# Altium schematic symbol library dungvh03-CERN_AnalogInterface.SchLib: 1053 symbols (part 1 of 12)
Pins are listed as number, name and electrical type; pins without a type are passive.

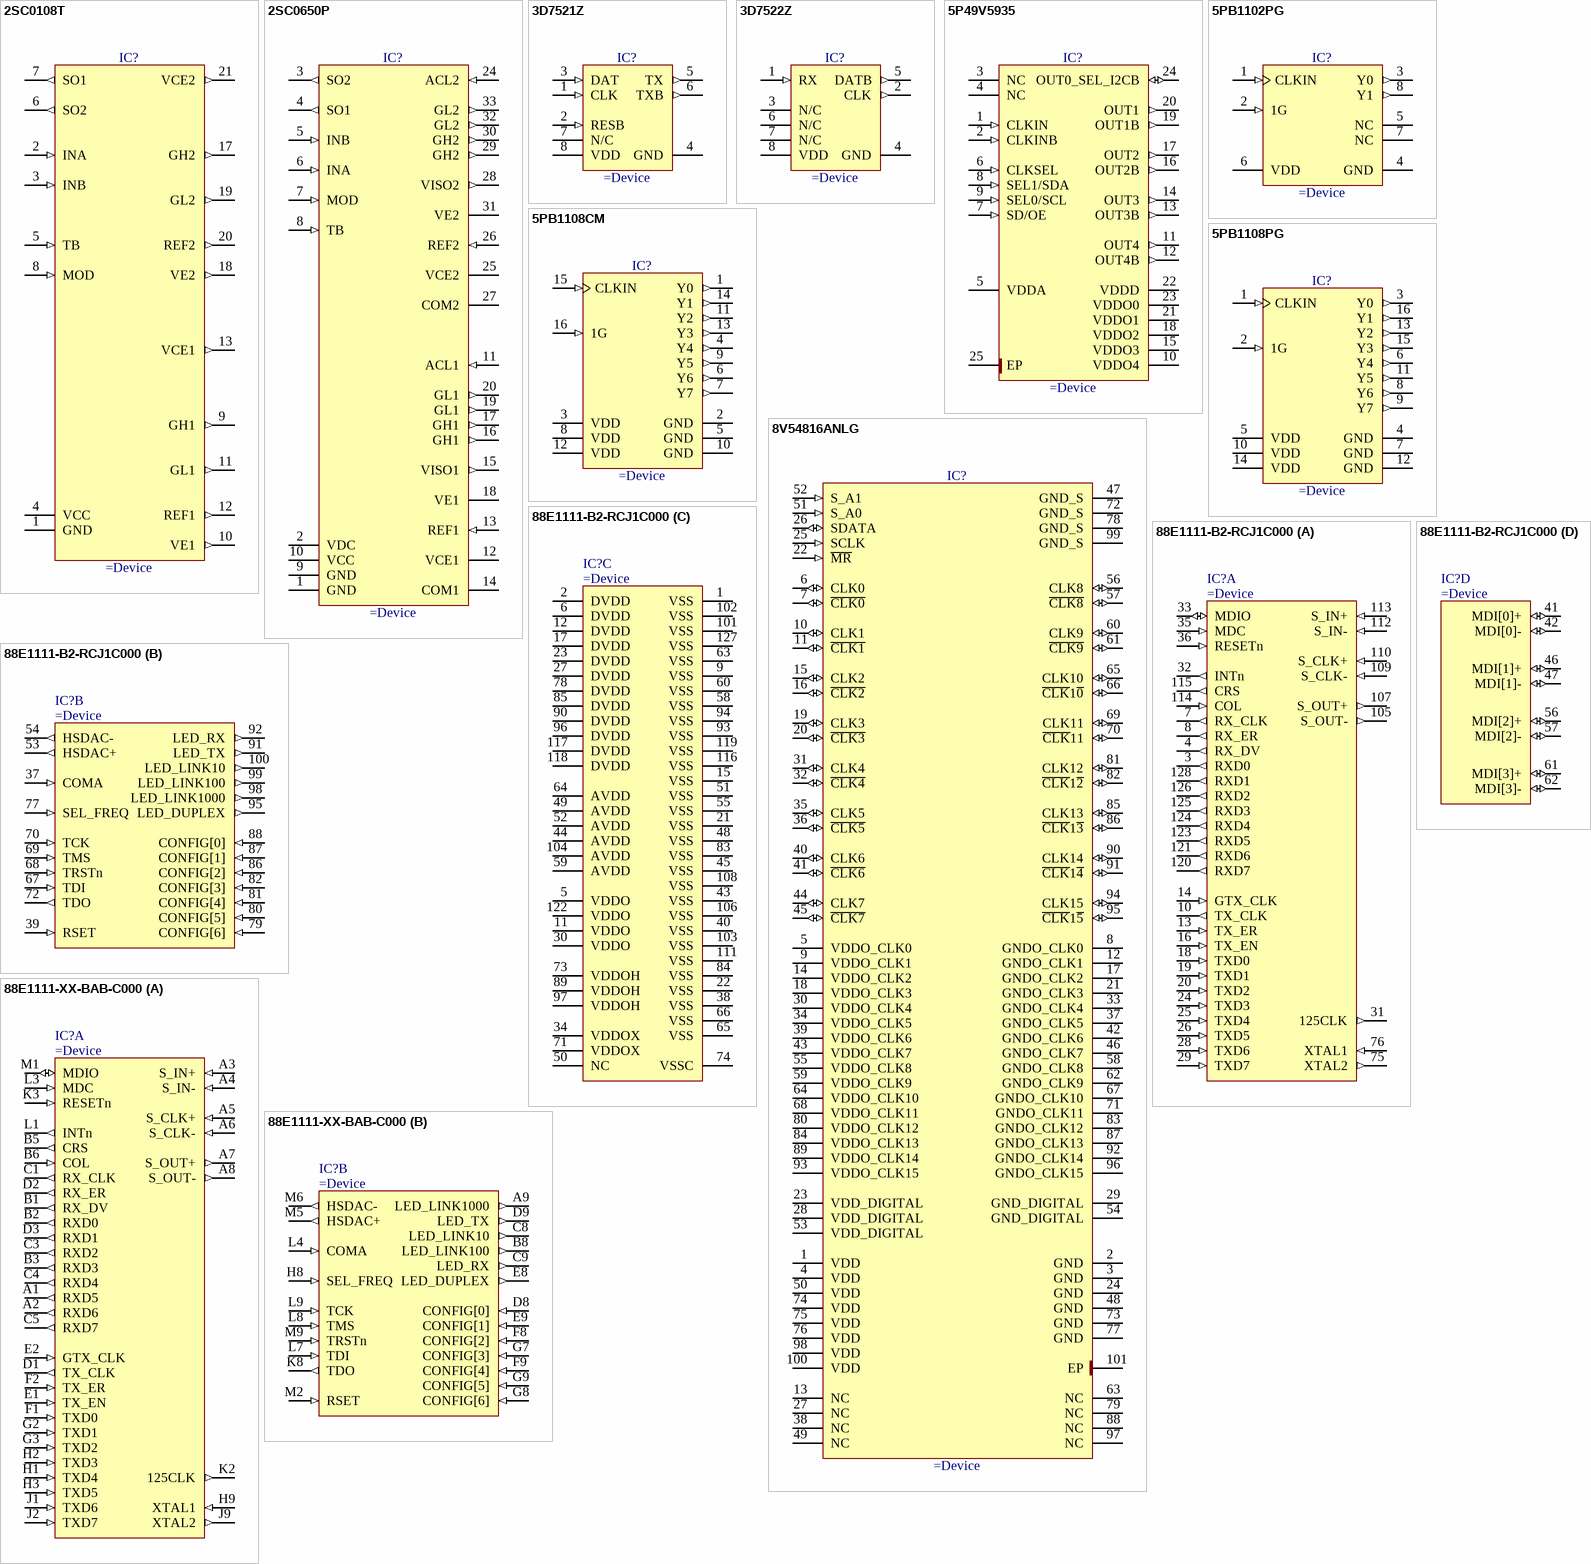
[diagram p0: symbols 2SC0108T to 88E1111-XX-BAB-C000]

## 2SC0108T
designator IC?
Dual-Channel SCALE™-2 Driver Core
pins: 1 GND (power), 2 INA (in), 3 INB (in), 4 VCC (power), 5 TB (in), 6 SO2 (out), 7 SO1 (out), 8 MOD (in), 9 GH1 (out), 10 VE1 (out), 11 GL1 (out), 12 REF1 (out), 13 VCE1 (out), 17 GH2 (out), 18 VE2 (out), 19 GL2 (out), 20 REF2 (out), 21 VCE2 (out)

## 2SC0650P
designator IC?
Dual-Channel High-Power High-Frequency SCALE-2 Driver Core
pins: 1 GND (power), 2 VDC (power), 3 SO2 (out), 4 SO1 (out), 5 INB (in), 6 INA (in), 7 MOD (in), 8 TB (in), 9 GND (power), 10 VCC (power), 11 ACL1 (in), 12 VCE1 (oc), 13 REF1 (in), 14 COM1 (power), 15 VISO1 (out), 16 GH1 (out), 17 GH1 (out), 18 VE1 (oe), 19 GL1 (out), 20 GL1 (out), 24 ACL2 (in), 25 VCE2 (oc), 26 REF2 (in), 27 COM2 (power), 28 VISO2 (out), 29 GH2 (out), 30 GH2 (out), 31 VE2 (oe), 32 GL2 (out), 33 GL2 (out)

## 3D7521Z
designator IC?
Monolithic Manchester Encoder
pins: 1 CLK (in), 2 RESB (in), 3 DAT (in), 4 GND (power), 5 TX (out), 6 TXB (out), 7 N/C, 8 VDD (power)

## 3D7522Z
designator IC?
Monolithic CMOS Manchester Decoders
pins: 1 RX (in), 2 CLK (out), 3 N/C, 4 GND (power), 5 DATB (out), 6 N/C, 7 N/C, 8 VDD (power)

## 5P49V5935
designator IC?
VersaClock® 5 Low Power Programmable Clock Generator with Integrated Crystal
pins: 1 CLKIN (in), 2 CLKINB (in), 3 NC, 4 NC, 5 VDDA (power), 6 CLKSEL (in), 7 SD/OE (in), 8 SEL1/SDA (in), 9 SEL0/SCL (in), 10 VDDO4 (power), 11 OUT4 (out), 12 OUT4B (out), 13 OUT3B (out), 14 OUT3 (out), 15 VDDO3 (power), 16 OUT2B (out), 17 OUT2 (out), 18 VDDO2 (power), 19 OUT1B (out), 20 OUT1 (out), 21 VDDO1 (power), 22 VDDD (power), 23 VDDO0 (power), 24 OUT0_SEL_I2CB (io), 25 EP (power)

## 5PB1102PG
designator IC?
1.8V to 3.3V 1:2 LVCMOS High Performance Clock Buffer Family
pins: 1 CLKIN (in), 2 1G (in), 3 Y0 (out), 4 GND (power), 5 NC, 6 VDD (power), 7 NC, 8 Y1 (out)

## 5PB1108CM
designator IC?
1.8V to 3.3V 1:8 LVCMOS High Performance Clock Buffer Family
pins: 1 Y0 (out), 2 GND (power), 3 VDD (power), 4 Y4 (out), 5 GND (power), 6 Y6 (out), 7 Y7 (out), 8 VDD (power), 9 Y5 (out), 10 GND (power), 11 Y2 (out), 12 VDD (power), 13 Y3 (out), 14 Y1 (out), 15 CLKIN (in), 16 1G (in)

## 5PB1108PG
designator IC?
1.8V to 3.3V 1:8 LVCMOS High Performance Clock Buffer Family
pins: 1 CLKIN (in), 2 1G (in), 3 Y0 (out), 4 GND (power), 5 VDD (power), 6 Y4 (out), 7 GND (power), 8 Y6 (out), 9 Y7 (out), 10 VDD (power), 11 Y5 (out), 12 GND (power), 13 Y2 (out), 14 VDD (power), 15 Y3 (out), 16 Y1 (out)

## 8V54816ANLG
designator IC?
16-Port, Bi-directional M-LVDS Clock Cross-Point Switch
pins: 1 VDD (power), 2 GND (power), 3 GND (power), 4 VDD (power), 5 VDDO_CLK0 (power), 6 CLK0 (io), 7 ~{CLK0} (io), 8 GNDO_CLK0 (power), 9 VDDO_CLK1 (power), 10 CLK1 (io), 11 ~{CLK1} (io), 12 GNDO_CLK1 (power), 13 NC, 14 VDDO_CLK2 (power), 15 CLK2 (io), 16 ~{CLK2} (io), 17 GNDO_CLK2 (power), 18 VDDO_CLK3 (power), 19 CLK3 (io), 20 ~{CLK3} (io), 21 GNDO_CLK3 (power), 22 ~{MR} (in), 23 VDD_DIGITAL (power), 24 GND (power), 25 SCLK (in), 26 SDATA (io), 27 NC, 28 VDD_DIGITAL (power), 29 GND_DIGITAL (power), 30 VDDO_CLK4 (power), 31 CLK4 (io), 32 ~{CLK4} (io), 33 GNDO_CLK4 (power), 34 VDDO_CLK5 (power), 35 CLK5 (io), 36 ~{CLK5} (io), 37 GNDO_CLK5 (power), 38 NC, 39 VDDO_CLK6 (power), 40 CLK6 (io), 41 ~{CLK6} (io), 42 GNDO_CLK6 (power), 43 VDDO_CLK7 (power), 44 CLK7 (io), 45 ~{CLK7} (io), 46 GNDO_CLK7 (power), 47 GND_S (power), 48 GND (power), 49 NC, 50 VDD (power), 51 S_A0 (in), 52 S_A1 (in), 53 VDD_DIGITAL (power), 54 GND_DIGITAL (power), 55 VDDO_CLK8 (power), 56 CLK8 (io), 57 ~{CLK8} (io), 58 GNDO_CLK8 (power), 59 VDDO_CLK9 (power), 60 CLK9 (io), 61 ~{CLK9} (io), 62 GNDO_CLK9 (power), 63 NC, 64 VDDO_CLK10 (power), 65 CLK10 (io), 66 ~{CLK}1~{0} (io), 67 GNDO_CLK10 (power), 68 VDDO_CLK11 (power), 69 CLK11 (io), 70 ~{CLK}11 (io), 71 GNDO_CLK11 (power), 72 GND_S (power), 73 GND (power), 74 VDD (power), 75 VDD (power), 76 VDD (power), 77 GND (power), 78 GND_S (power), 79 NC, 80 VDDO_CLK12 (power), 81 CLK12 (io), 82 ~{CLK}1~{2} (io), 83 GNDO_CLK12 (power), 84 VDDO_CLK13 (power), 85 CLK13 (io), 86 ~{CLK}1~{3} (io), 87 GNDO_CLK13 (power), 88 NC, 89 VDDO_CLK14 (power), 90 CLK14 (io), 91 ~{CLK}1~{4} (io), 92 GNDO_CLK14 (power), 93 VDDO_CLK15 (power), 94 CLK15 (io), 95 ~{CLK}1~{5} (io), 96 GNDO_CLK15 (power), 97 NC, 98 VDD (power), 99 GND_S (power), 100 VDD (power), 101 EP (power)

## 88E1111-B2-RCJ1C000
designator IC?
Integrated 10/100/1000 Ultra Gigabit Ethernet Transceiver
part A pins: 3 RXD0 (out), 4 RX_DV (out), 7 RX_CLK (out), 8 RX_ER (out), 10 TX_CLK (out), 13 TX_ER (in), 14 GTX_CLK (in), 16 TX_EN (in), 18 TXD0 (in), 19 TXD1 (in), 20 TXD2 (in), 24 TXD3 (in), 25 TXD4 (in), 26 TXD5 (in), 28 TXD6 (in), 29 TXD7 (in), 31 125CLK (out), 32 INTn (out), 33 MDIO (io), 35 MDC (in), 36 RESETn (in), 75 XTAL2 (out), 76 XTAL1 (in), 105 S_OUT- (out), 107 S_OUT+ (out), 109 S_CLK- (in), 110 S_CLK+ (in), 112 S_IN- (in), 113 S_IN+ (in), 114 COL (in), 115 CRS (out), 120 RXD7 (out), 121 RXD6 (out), 123 RXD5 (out), 124 RXD4 (out), 125 RXD3 (out), 126 RXD2 (out), 128 RXD1 (out)
part B pins: 37 COMA (in), 39 RSET (in), 53 HSDAC+ (out), 54 HSDAC- (out), 67 TDI (in), 68 TRSTn (in), 69 TMS (in), 70 TCK (in), 72 TDO (out), 77 SEL_FREQ (in), 79 CONFIG[6] (in), 80 CONFIG[5] (in), 81 CONFIG[4] (in), 82 CONFIG[3] (in), 86 CONFIG[2] (in), 87 CONFIG[1] (in), 88 CONFIG[0] (in), 91 LED_TX (out), 92 LED_RX (out), 95 LED_DUPLEX (out), 98 LED_LINK1000 (out), 99 LED_LINK100 (out), 100 LED_LINK10 (out)
part C pins: 1 VSS (power), 2 DVDD (power), 5 VDDO (power), 6 DVDD (power), 9 VSS (power), 11 VDDO (power), 12 DVDD (power), 15 VSS (power), 17 DVDD (power), 21 VSS (power), 22 VSS (power), 23 DVDD (power), 27 DVDD (power), 30 VDDO (power), 34 VDDOX (power), 38 VSS (power), 40 VSS (power), 43 VSS (power), 44 AVDD (power), 45 VSS (power), 48 VSS (power), 49 AVDD (power), 50 NC, 51 VSS (power), 52 AVDD (power), 55 VSS (power), 58 VSS (power), 59 AVDD (power), 60 VSS (power), 63 VSS (power), 64 AVDD (power), 65 VSS (power), 66 VSS (power), 71 VDDOX (power), 73 VDDOH (power), 74 VSSC (power), 78 DVDD (power), 83 VSS (power), 84 VSS (power), 85 DVDD (power), 89 VDDOH (power), 90 DVDD (power), 93 VSS (power), 94 VSS (power), 96 DVDD (power), 97 VDDOH (power), 101 VSS (power), 102 VSS (power), 103 VSS (power), 104 AVDD (power), 106 VSS (power), 108 VSS (power), 111 VSS (power), 116 VSS (power), 117 DVDD (power), 118 DVDD (power), 119 VSS (power), 122 VDDO (power), 127 VSS (power)
part D pins: 41 MDI[0]+ (io), 42 MDI[0]- (io), 46 MDI[1]+ (io), 47 MDI[1]- (io), 56 MDI[2]+ (io), 57 MDI[2]- (io), 61 MDI[3]+ (io), 62 MDI[3]- (io)

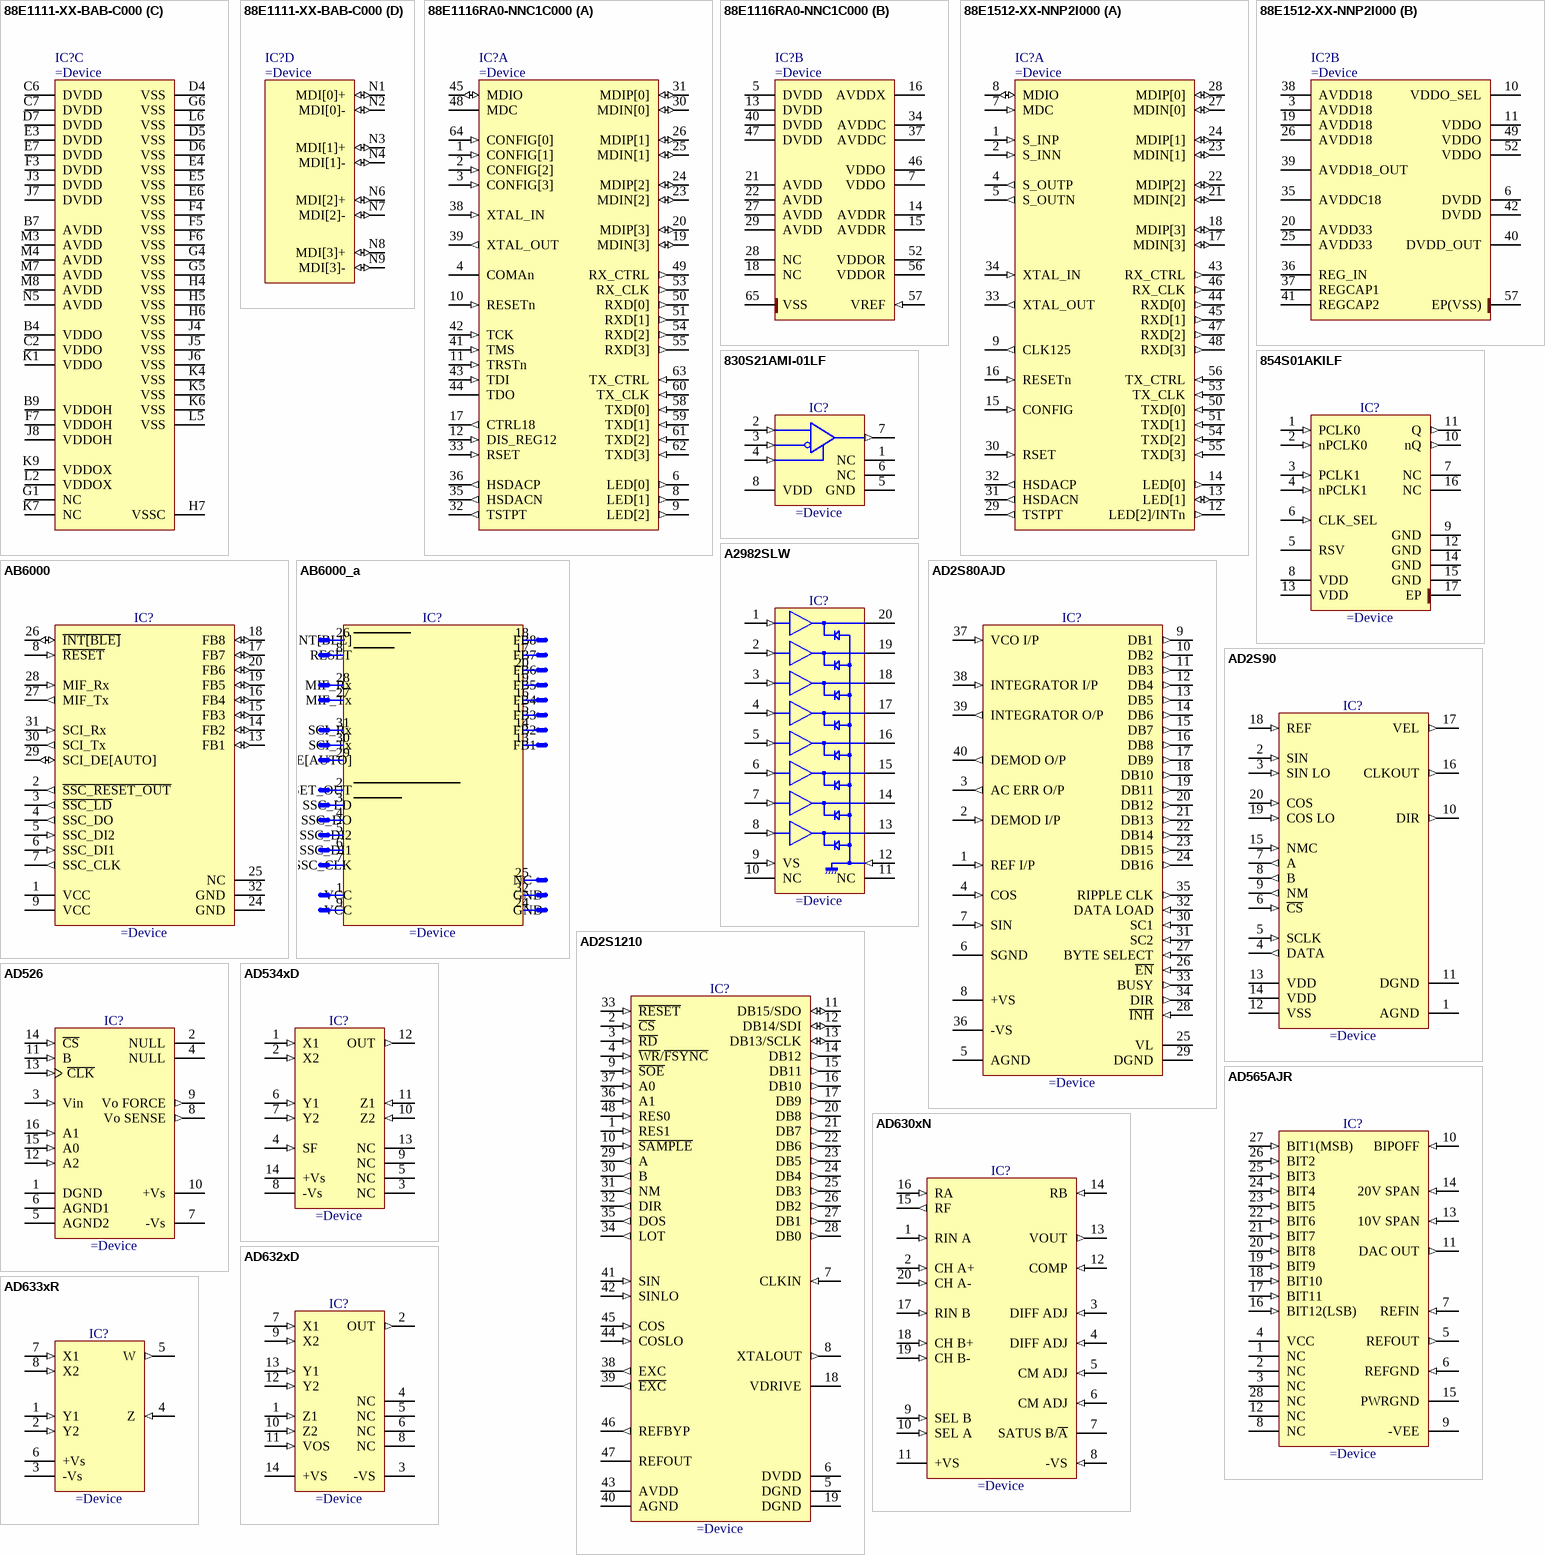
[diagram p1: symbols 88E1111-XX-BAB-C000 to AD633xR]

## 88E1111-XX-BAB-C000
designator IC?
Integrated 10/100/1000 Ultra Gigabit Ethernet Transceiver
part A pins: A1 RXD5 (out), A2 RXD6 (out), A3 S_IN+ (in), A4 S_IN- (in), A5 S_CLK+ (in), A6 S_CLK- (in), A7 S_OUT+ (out), A8 S_OUT- (out), B1 RX_DV (out), B2 RXD0 (out), B3 RXD3 (out), B5 CRS (out), B6 COL (in), C1 RX_CLK (out), C3 RXD2 (out), C4 RXD4 (out), C5 RXD7 (out), D1 TX_CLK (out), D2 RX_ER (out), D3 RXD1 (out), E1 TX_EN (in), E2 GTX_CLK (in), F1 TXD0 (in), F2 TX_ER (in), G2 TXD1 (in), G3 TXD2 (in), H1 TXD4 (in), H2 TXD3 (in), H3 TXD5 (in), H9 XTAL1 (in), J1 TXD6 (in), J2 TXD7 (in), J9 XTAL2 (out), K2 125CLK (out), K3 RESETn (in), L1 INTn (out), L3 MDC (in), M1 MDIO (io)
part B pins: A9 LED_LINK1000 (out), B8 LED_LINK100 (out), C8 LED_LINK10 (out), C9 LED_RX (out), D8 CONFIG[0] (in), D9 LED_TX (out), E8 LED_DUPLEX (out), E9 CONFIG[1] (in), F8 CONFIG[2] (in), F9 CONFIG[4] (in), G7 CONFIG[3] (in), G8 CONFIG[6] (in), G9 CONFIG[5] (in), H8 SEL_FREQ (in), K8 TDO (out), L4 COMA (in), L7 TDI (in), L8 TMS (in), L9 TCK (in), M2 RSET (in), M5 HSDAC+ (out), M6 HSDAC- (out), M9 TRSTn (in)
part C pins: B4 VDDO (power), B7 AVDD (power), B9 VDDOH (power), C2 VDDO (power), C6 DVDD (power), C7 DVDD (power), D4 VSS (power), D5 VSS (power), D6 VSS (power), D7 DVDD (power), E3 DVDD (power), E4 VSS (power), E5 VSS (power), E6 VSS (power), E7 DVDD (power), F3 DVDD (power), F4 VSS (power), F5 VSS (power), F6 VSS (power), F7 VDDOH (power), G1 NC, G4 VSS (power), G5 VSS (power), G6 VSS (power), H4 VSS (power), H5 VSS (power), H6 VSS (power), H7 VSSC (power), J3 DVDD (power), J4 VSS (power), J5 VSS (power), J6 VSS (power), J7 DVDD (power), J8 VDDOH (power), K1 VDDO (power), K4 VSS (power), K5 VSS (power), K6 VSS (power), K7 NC, K9 VDDOX (power), L2 VDDOX (power), L5 VSS (power), L6 VSS (power), M3 AVDD (power), M4 AVDD (power), M7 AVDD (power), M8 AVDD (power), N5 AVDD (power)
part D pins: N1 MDI[0]+ (io), N2 MDI[0]- (io), N3 MDI[1]+ (io), N4 MDI[1]- (io), N6 MDI[2]+ (io), N7 MDI[2]- (io), N8 MDI[3]+ (io), N9 MDI[3]- (io)

## 88E1116RA0-NNC1C000
designator IC?
Integrated 10/100/1000 Alaska® Gigabit Ethernet Transceiver
part A pins: 1 CONFIG[1] (in), 2 CONFIG[2] (in), 3 CONFIG[3] (in), 4 COMAn (power), 6 LED[0] (out), 8 LED[1] (out), 9 LED[2] (out), 10 RESETn (in), 11 TRSTn (in), 12 DIS_REG12 (in), 17 CTRL18 (out), 19 MDIN[3] (io), 20 MDIP[3] (io), 23 MDIN[2] (io), 24 MDIP[2] (io), 25 MDIN[1] (io), 26 MDIP[1] (io), 30 MDIN[0] (io), 31 MDIP[0] (io), 32 TSTPT (out), 33 RSET (in), 35 HSDACN (out), 36 HSDACP (out), 38 XTAL_IN (in), 39 XTAL_OUT (out), 41 TMS (in), 42 TCK (in), 43 TDI (in), 44 TDO, 45 MDIO (io), 48 MDC, 49 RX_CTRL (out), 50 RXD[0] (out), 51 RXD[1] (out), 53 RX_CLK (out), 54 RXD[2] (out), 55 RXD[3] (out), 58 TXD[0] (in), 59 TXD[1] (in), 60 TX_CLK (in), 61 TXD[2] (in), 62 TXD[3] (in), 63 TX_CTRL (in), 64 CONFIG[0] (in)
part B pins: 5 DVDD (power), 7 VDDO (power), 13 DVDD (power), 14 AVDDR (power), 15 AVDDR (power), 16 AVDDX (power), 18 NC, 21 AVDD (power), 22 AVDD (power), 27 AVDD (power), 28 NC, 29 AVDD (power), 34 AVDDC (power), 37 AVDDC (power), 40 DVDD (power), 46 VDDO (power), 47 DVDD (power), 52 VDDOR (power), 56 VDDOR (power), 57 VREF (in), 65 VSS (power)

## 88E1512-XX-NNP2I000
designator IC?
Alaska Integrated 10/100/1000 Mbps Energy Efficient Ethernet Transceiver
part A pins: 1 S_INP (in), 2 S_INN (in), 4 S_OUTP (out), 5 S_OUTN (out), 7 MDC (in), 8 MDIO (io), 9 CLK125 (out), 12 LED[2]/INTn (out), 13 LED[1] (io), 14 LED[0] (out), 15 CONFIG (in), 16 RESETn (in), 17 MDIN[3] (io), 18 MDIP[3] (io), 21 MDIN[2] (io), 22 MDIP[2] (io), 23 MDIN[1] (io), 24 MDIP[1] (io), 27 MDIN[0] (io), 28 MDIP[0] (io), 29 TSTPT (out), 30 RSET (in), 31 HSDACN (out), 32 HSDACP (out), 33 XTAL_OUT (out), 34 XTAL_IN (in), 43 RX_CTRL (out), 44 RXD[0] (out), 45 RXD[1] (out), 46 RX_CLK (out), 47 RXD[2] (out), 48 RXD[3] (out), 50 TXD[0] (in), 51 TXD[1] (in), 53 TX_CLK (in), 54 TXD[2] (in), 55 TXD[3] (in), 56 TX_CTRL (in)
part B pins: 3 AVDD18 (power), 6 DVDD (power), 10 VDDO_SEL (power), 11 VDDO (power), 19 AVDD18 (power), 20 AVDD33 (power), 25 AVDD33 (power), 26 AVDD18 (power), 35 AVDDC18 (power), 36 REG_IN (power), 37 REGCAP1, 38 AVDD18 (power), 39 AVDD18_OUT (power), 40 DVDD_OUT (power), 41 REGCAP2, 42 DVDD (power), 49 VDDO (power), 52 VDDO (power), 57 EP(VSS) (power)

## 830S21AMI-01LF
designator IC?
1-to-1 2.5V, 3.3V Differential-to-LVCMOS/LVTTL Translator
pins: 1 NC, 2 CLK (in), 3 nCLK (in), 4 OE (in), 5 GND (power), 6 NC, 7 Q (out), 8 VDD (power)

## 854S01AKILF
designator IC?
2:1 Differential-to-LVDS Multiplexer
pins: 1 PCLK0 (in), 2 nPCLK0 (in), 3 PCLK1 (in), 4 nPCLK1 (in), 5 RSV, 6 CLK_SEL (in), 7 NC, 8 VDD (power), 9 GND (power), 10 nQ (out), 11 Q (out), 12 GND (power), 13 VDD (power), 14 GND (power), 15 GND (power), 16 NC, 17 EP (power)

## A2982SLW
designator IC?
8-Channel Source Drivers
pins: 1 I1 (in), 2 I2 (in), 3 I3 (in), 4 I4 (in), 5 I5 (in), 6 I6 (in), 7 I7 (in), 8 I8 (in), 9 VS (in), 10 NC, 11 NC, 12 GND (in), 13 O8 (oc), 14 O7 (oc), 15 O6 (oc), 16 O5 (oc), 17 O4 (oc), 18 O3 (oc), 19 O2 (oc), 20 O1 (oc)

## AB6000
designator IC?
DIL-32 Anybus®-IC™ Module for Fieldbus and Ethernet
pins: 1 VCC (power), 2 ~{SSC_RESET_OUT} (out), 3 ~{SSC_LD} (out), 4 SSC_DO (out), 5 SSC_DI2 (in), 6 SSC_DI1 (in), 7 SSC_CLK (out), 8 ~{RESET} (in), 9 VCC (power), 13 FB1 (io), 14 FB2 (io), 15 FB3 (io), 16 FB4 (io), 17 FB7 (io), 18 FB8 (io), 19 FB5 (io), 20 FB6 (io), 24 GND (power), 25 NC, 26 ~{INT[BLE]} (io), 27 MIF_Tx (out), 28 MIF_Rx (in), 29 SCI_DE[AUTO] (io), 30 SCI_Tx (out), 31 SCI_Rx (in), 32 GND (power)

## AB6000_a
designator IC?
DIL-32 Anybus®-IC™ Module for Fieldbus and Ethernet
text: 26; 18; INT[BLE]; FB8; 8; 17; RESET; FB7; 20; FB6; 28; 19; MIF_Rx; FB5; 27; 16; MIF_Tx; FB4; 15; FB3; 31; 14; SCI_Rx; FB2; 30; 13; SCI_Tx; FB1; 29; SCI_DE[AUTO]; 2; SSC_RESET_OUT; 3; SSC_LD; 4; SSC_DO; 5; SSC_DI2; 6; SSC_DI1; 7; SSC_CLK; 25; NC; 1; 32; VCC; GND; 9; 24

## AD2S80AJD
designator IC?
Variable Resolution, Monolithic Resolver-to-Digital Converter
pins: 1 REF I/P (in), 2 DEMOD I/P (in), 3 AC ERR O/P (out), 4 COS (in), 5 AGND (power), 6 SGND (power), 7 SIN (in), 8 +VS (power), 9 DB1 (out), 10 DB2 (out), 11 DB3 (out), 12 DB4 (out), 13 DB5 (out), 14 DB6 (out), 15 DB7 (out), 16 DB8 (out), 17 DB9 (out), 18 DB10 (out), 19 DB11 (out), 20 DB12 (out), 21 DB13 (out), 22 DB14 (out), 23 DB15 (out), 24 DB16 (out), 25 VL (power), 26 ~{EN} (in), 27 BYTE SELECT (in), 28 ~{INH} (in), 29 DGND (power), 30 SC1 (in), 31 SC2 (in), 32 DATA LOAD (in), 33 BUSY (out), 34 DIR (out), 35 RIPPLE CLK (out), 36 -VS (power), 37 VCO I/P (in), 38 INTEGRATOR I/P (in), 39 INTEGRATOR O/P (out), 40 DEMOD O/P (out)

## AD2S90
designator IC?
Low Cost, Complete 12-Bit Resolver-to-Digital Converter
pins: 1 AGND (power), 2 SIN (in), 3 SIN LO (in), 4 DATA (out), 5 SCLK (in), 6 ~{CS} (in), 7 A (out), 8 B (out), 9 NM (out), 10 DIR (out), 11 DGND (power), 12 VSS (power), 13 VDD (power), 14 VDD (power), 15 NMC (in), 16 CLKOUT (out), 17 VEL (out), 18 REF (in), 19 COS LO (in), 20 COS (in)

## AD2S1210
designator IC?
Variable Resolution, 10-Bit to 16-Bit R/D Converter with Reference Oscillator
pins: 1 RES1 (in), 2 ~{CS} (in), 3 ~{RD} (in), 4 ~{WR}/~{FSYNC} (in), 5 DGND (power), 6 DVDD (power), 7 CLKIN (in), 8 XTALOUT (out), 9 ~{SOE} (in), 10 ~{SAMPLE} (in), 11 DB15/SDO (io), 12 DB14/SDI (io), 13 DB13/SCLK (io), 14 DB12 (out), 15 DB11 (out), 16 DB10 (out), 17 DB9 (out), 18 VDRIVE (power), 19 DGND (power), 20 DB8 (out), 21 DB7 (out), 22 DB6 (out), 23 DB5 (out), 24 DB4 (out), 25 DB3 (out), 26 DB2 (out), 27 DB1 (out), 28 DB0 (out), 29 A (out), 30 B (out), 31 NM (out), 32 DIR (out), 33 ~{RESET} (in), 34 LOT (out), 35 DOS (out), 36 A1 (in), 37 A0 (in), 38 EXC (out), 39 ~{EXC} (out), 40 AGND (power), 41 SIN (in), 42 SINLO (in), 43 AVDD (power), 44 COSLO (in), 45 COS (in), 46 REFBYP (out), 47 REFOUT, 48 RES0 (in)

## AD526
designator IC?
Software Programmable Gain Amplifier
pins: 1 DGND (power), 2 NULL, 3 Vin (in), 4 NULL, 5 AGND2 (power), 6 AGND1 (power), 7 -Vs (power), 8 Vo SENSE (out), 9 Vo FORCE (out), 10 +Vs (power), 11 B (in), 12 A2 (in), 13 ~{CLK} (in), 14 ~{CS} (in), 15 A0 (in), 16 A1 (in)

## AD534xD
designator IC?
Monolithic Laser Trimmed Four-Quadrant Multiplier Divider
pins: 1 X1 (in), 2 X2 (in), 3 NC, 4 SF (in), 5 NC, 6 Y1 (in), 7 Y2 (in), 8 -Vs (power), 9 NC, 10 Z2 (in), 11 Z1 (in), 12 OUT (out), 13 NC, 14 +Vs (power)

## AD565AJR
designator IC?
High Speed 12-Bit Monolithic DAC
pins: 1 NC, 2 NC, 3 NC, 4 VCC (power), 5 REFOUT (out), 6 REFGND (in), 7 REFIN (in), 8 NC, 9 -VEE (power), 10 BIPOFF (in), 11 DAC OUT (out), 12 NC, 13 10V SPAN (in), 14 20V SPAN (in), 15 PWRGND (power), 16 BIT12(LSB) (in), 17 BIT11 (in), 18 BIT10 (in), 19 BIT9 (in), 20 BIT8 (in), 21 BIT7 (in), 22 BIT6 (in), 23 BIT5 (in), 24 BIT4 (in), 25 BIT3 (in), 26 BIT2 (in), 27 BIT1(MSB) (in), 28 NC

## AD630xN
designator IC?
Balanced Modulator/Demodulator
pins: 1 RIN A (in), 2 CH A+ (in), 3 DIFF ADJ (in), 4 DIFF ADJ (in), 5 CM ADJ (in), 6 CM ADJ (in), 7 SATUS B/~{A} (oc), 8 -VS (in), 9 SEL B (in), 10 SEL A (in), 11 +VS (power), 12 COMP (in), 13 VOUT (out), 14 RB (in), 15 RF (out), 16 RA (in), 17 RIN B (in), 18 CH B+ (in), 19 CH B- (in), 20 CH A- (in)

## AD632xD
designator IC?
Internally Trimmed Precision IC Multiplier
pins: 1 Z1 (in), 2 OUT (out), 3 -VS (power), 4 NC, 5 NC, 6 NC, 7 X1 (in), 8 NC, 9 X2 (in), 10 Z2 (in), 11 VOS (in), 12 Y2 (in), 13 Y1 (in), 14 +VS (power)

## AD633xR
designator IC?
Low Cost Analog Multiplier
pins: 1 Y1 (in), 2 Y2 (in), 3 -Vs (power), 4 Z (in), 5 W (out), 6 +Vs (power), 7 X1 (in), 8 X2 (in)

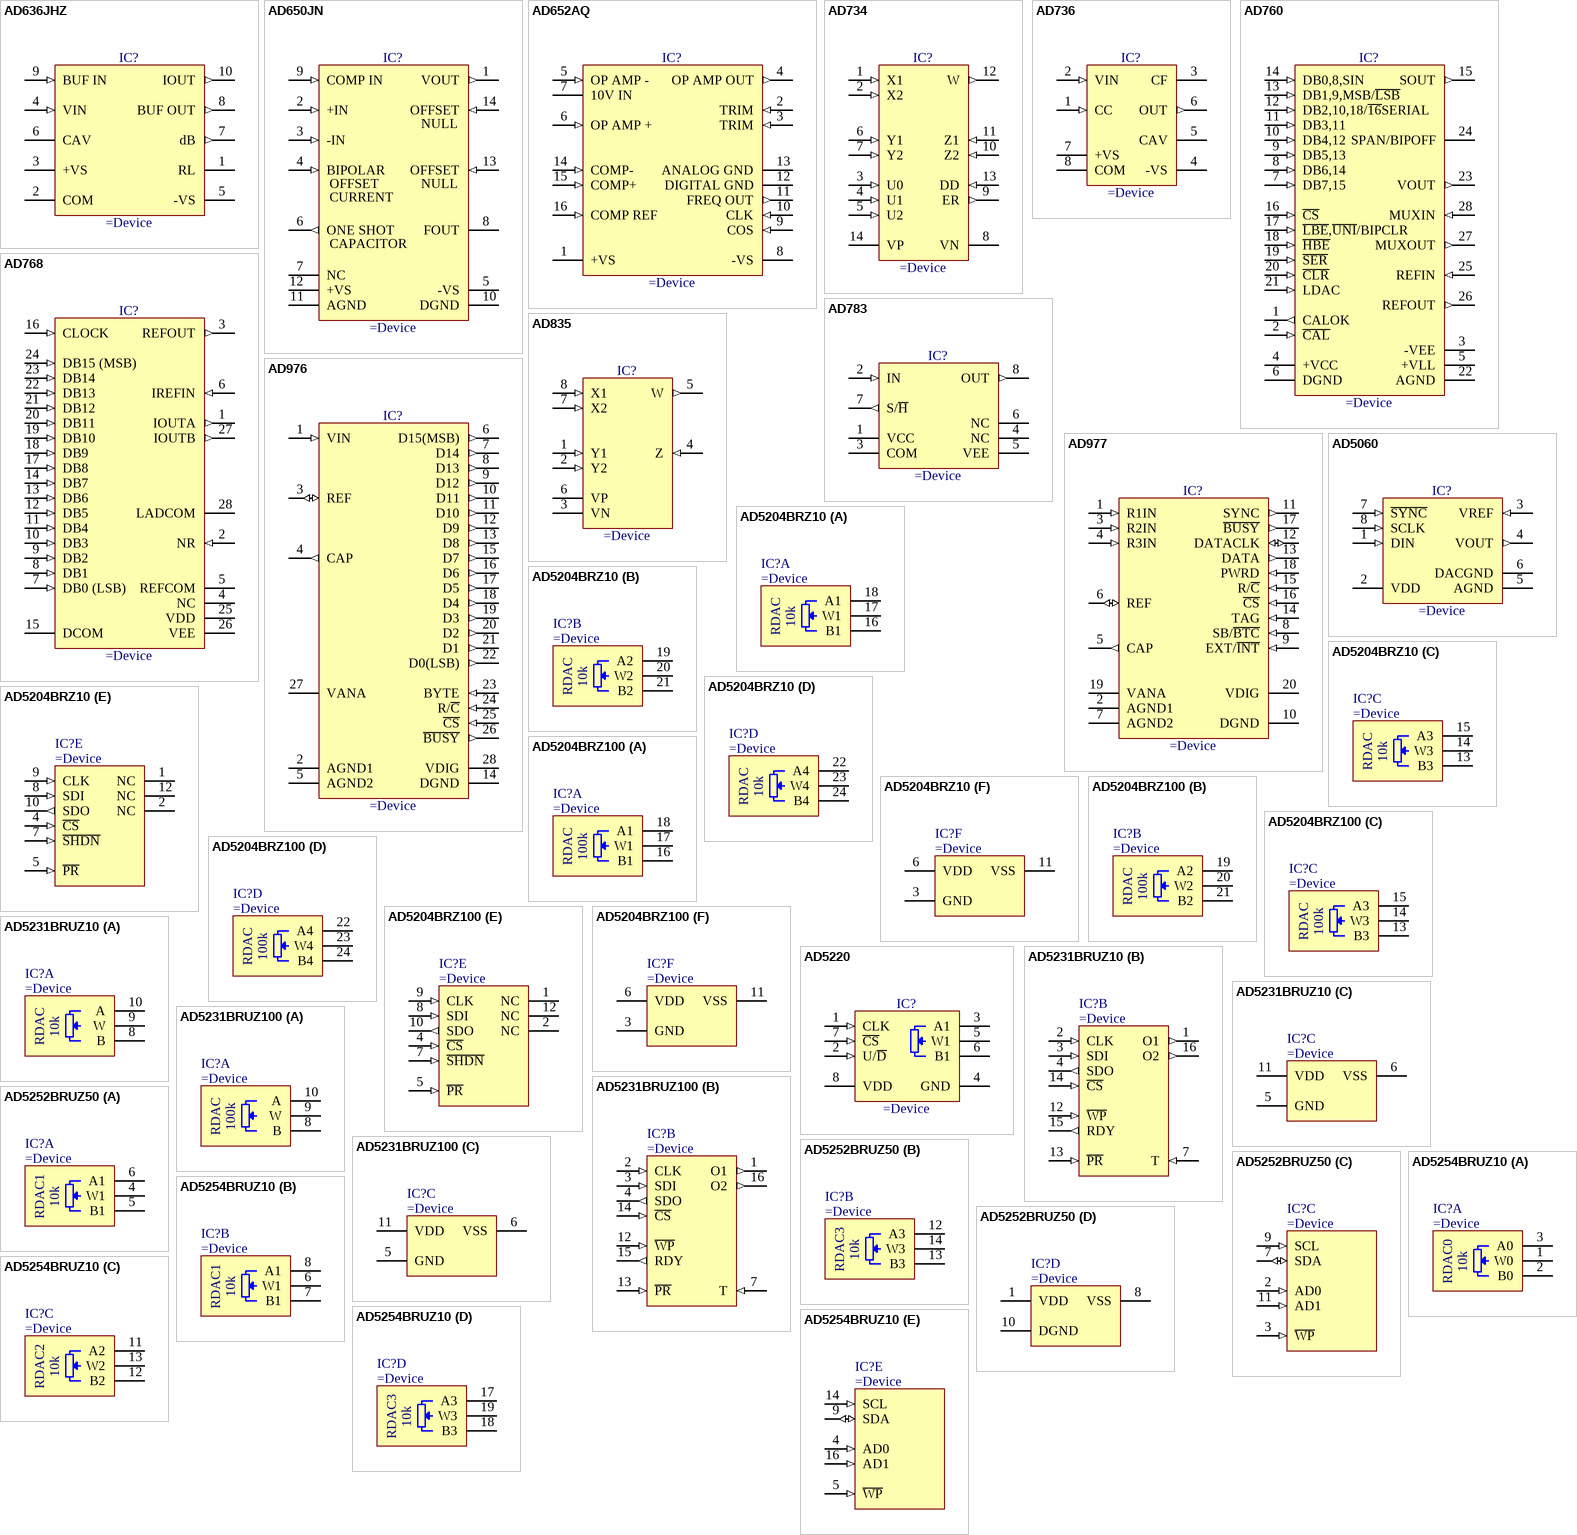
[diagram p2: symbols AD636JHZ to AD5254BRUZ10]

## AD636JHZ
designator IC?
Low Level, True RMS-to-DC Converter
pins: 1 RL, 2 COM (power), 3 +VS (power), 4 VIN (in), 5 -VS (power), 6 CAV, 7 dB (out), 8 BUF OUT (out), 9 BUF IN (in), 10 IOUT (out)

## AD650JN
designator IC?
Voltage-to-Frequency and Frequency-to-Voltage Converter
pins: 1 VOUT (out), 2 +IN (in), 3 -IN (in), 4 BIPOLAR (in), 5 -VS (power), 6 ONE SHOT (out), 7 NC, 8 FOUT (oc), 9 COMP IN (in), 10 DGND (power), 11 AGND (power), 12 +VS (power), 13 OFFSET (in), 14 OFFSET (in)
text: NULL; CURRENT; CAPACITOR

## AD652AQ
designator IC?
Monolithic Synchronous, Voltage-to-Frequency Converter
pins: 1 +VS (power), 2 TRIM (in), 3 TRIM (in), 4 OP AMP OUT (out), 5 OP AMP - (in), 6 OP AMP + (in), 7 10V IN (power), 8 -VS (oc), 9 COS (in), 10 CLK (in), 11 FREQ OUT (out), 12 DIGITAL GND (power), 13 ANALOG GND (power), 14 COMP- (in), 15 COMP+ (in), 16 COMP REF (in)

## AD734
designator IC?
10 MHz, Four-Quadrant Multiplier/Divider
pins: 1 X1 (in), 2 X2 (in), 3 U0 (in), 4 U1 (in), 5 U2 (in), 6 Y1 (in), 7 Y2 (in), 8 VN (power), 9 ER (out), 10 Z2 (in), 11 Z1 (in), 12 W (out), 13 DD (in), 14 VP (power)

## AD736
designator IC?
Low Cost, Low Power, True RMS-to-DC Converter
pins: 1 CC (in), 2 VIN (in), 3 CF, 4 -VS (power), 5 CAV, 6 OUT (out), 7 +VS (power), 8 COM (power)

## AD760
designator IC?
16/18-Bit Self Calibrating Serial/Byte DACPORT
pins: 1 CALOK (out), 2 ~{CAL} (in), 3 -VEE (power), 4 +VCC (power), 5 +VLL (power), 6 DGND (power), 7 DB7,15 (in), 8 DB6,14 (in), 9 DB5,13 (in), 10 DB4,12 (in), 11 DB3,11 (in), 12 DB2,10,18/~{16}SERIAL (in), 13 DB1,9,MSB/~{LSB} (in), 14 DB0,8,SIN (in), 15 SOUT (out), 16 ~{CS} (in), 17 ~{LBE},~{UNI}/BIPCLR (in), 18 ~{HBE} (in), 19 ~{SER} (in), 20 ~{CLR} (in), 21 LDAC (in), 22 AGND (power), 23 VOUT (out), 24 SPAN/BIPOFF, 25 REFIN (in), 26 REFOUT (out), 27 MUXOUT (out), 28 MUXIN (in)

## AD768
designator IC?
16-Bit, 30 MSPS DAC
pins: 1 IOUTA (out), 2 NR (in), 3 REFOUT (out), 4 NC, 5 REFCOM (power), 6 IREFIN (in), 7 DB0 (LSB) (in), 8 DB1 (in), 9 DB2 (in), 10 DB3 (in), 11 DB4 (in), 12 DB5 (in), 13 DB6 (in), 14 DB7 (in), 15 DCOM, 16 CLOCK (in), 17 DB8 (in), 18 DB9 (in), 19 DB10 (in), 20 DB11 (in), 21 DB12 (in), 22 DB13 (in), 23 DB14 (in), 24 DB15 (MSB) (in), 25 VDD (power), 26 VEE (power), 27 IOUTB (out), 28 LADCOM (power)

## AD783
designator IC?
Complete Very High Speed Sample-and-Hold Amplifier
pins: 1 VCC (power), 2 IN (in), 3 COM (power), 4 NC, 5 VEE (power), 6 NC, 7 S/~{H} (out), 8 OUT (out)

## AD835
designator IC?
250 MHz, Voltage Output, 4-Quadrant Multiplier
pins: 1 Y1 (in), 2 Y2 (in), 3 VN (power), 4 Z (in), 5 W (out), 6 VP (power), 7 X2 (in), 8 X1 (in)

## AD976
designator IC?
16-Bit, 100 kSPS/200 kSPS BiCMOS Analog-To-Digital Converter
pins: 1 VIN (in), 2 AGND1 (power), 3 REF (io), 4 CAP (out), 5 AGND2 (power), 6 D15(MSB) (out), 7 D14 (out), 8 D13 (out), 9 D12 (out), 10 D11 (out), 11 D10 (out), 12 D9 (out), 13 D8 (out), 14 DGND (power), 15 D7 (out), 16 D6 (out), 17 D5 (out), 18 D4 (out), 19 D3 (out), 20 D2 (out), 21 D1 (out), 22 D0(LSB) (out), 23 BYTE (in), 24 R/~{C} (in), 25 ~{CS} (in), 26 ~{BUSY} (out), 27 VANA (power), 28 VDIG (power)

## AD977
designator IC?
16-Bit, 100 kSPS/200 kSPS BiCMOS Analog-To-Digital Converter
pins: 1 R1IN (in), 2 AGND1 (power), 3 R2IN (in), 4 R3IN (in), 5 CAP (out), 6 REF (io), 7 AGND2 (power), 8 SB/~{BTC} (in), 9 EXT/~{INT} (in), 10 DGND (power), 11 SYNC (out), 12 DATACLK (io), 13 DATA (out), 14 TAG (in), 15 R/~{C} (in), 16 ~{CS} (in), 17 ~{BUSY} (out), 18 PWRD (in), 19 VANA (power), 20 VDIG (power)

## AD5060
designator IC?
Fully Accurate 14-/16-Bit VOUT nanoDAC™ SPI Interface 2.7 V to 5.5 V
pins: 1 DIN (in), 2 VDD (power), 3 VREF (in), 4 VOUT (out), 5 AGND (power), 6 DACGND (power), 7 ~{SYNC} (in), 8 SCLK (in)

## AD5204BRZ10
designator IC?
4-Channel 10k Digital Potentiometer
part A pins: 16 B1, 17 W1, 18 A1
part B pins: 19 A2, 20 W2, 21 B2
part C pins: 13 B3, 14 W3, 15 A3
part D pins: 22 A4, 23 W4, 24 B4
part E pins: 1 NC, 2 NC, 4 ~{CS} (in), 5 ~{PR} (in), 7 ~{SHDN} (in), 8 SDI (in), 9 CLK (in), 10 SDO (out), 12 NC
part F pins: 3 GND (power), 6 VDD (power), 11 VSS (power)
part A text: RDAC; 10k
part B text: RDAC; 10k
part C text: RDAC; 10k
part D text: RDAC; 10k

## AD5204BRZ100
designator IC?
4-Channel 100k Digital Potentiometer
part A pins: 16 B1, 17 W1, 18 A1
part B pins: 19 A2, 20 W2, 21 B2
part C pins: 13 B3, 14 W3, 15 A3
part D pins: 22 A4, 23 W4, 24 B4
part E pins: 1 NC, 2 NC, 4 ~{CS} (in), 5 ~{PR} (in), 7 ~{SHDN} (in), 8 SDI (in), 9 CLK (in), 10 SDO (out), 12 NC
part F pins: 3 GND (power), 6 VDD (power), 11 VSS (power)
part A text: RDAC; 100k
part B text: RDAC; 100k
part C text: RDAC; 100k
part D text: RDAC; 100k

## AD5220
designator IC?
Increment/Decrement Digital Potentiometer
pins: 1 CLK (in), 2 U/~{D} (in), 3 A1, 4 GND (power), 5 W1, 6 B1, 7 ~{CS} (in), 8 VDD (power)

## AD5231BRUZ10
designator IC?
Nonvolatile Memory, 1024-Position, 10k Digital Potentiometer
part A pins: 8 B, 9 W, 10 A
part B pins: 1 O1 (out), 2 CLK (in), 3 SDI (in), 4 SDO (out), 7 T (in), 12 ~{WP} (in), 13 ~{PR} (in), 14 ~{CS} (in), 15 RDY (out), 16 O2 (out)
part C pins: 5 GND (power), 6 VSS (power), 11 VDD (power)
part A text: RDAC; 10k

## AD5231BRUZ100
designator IC?
Nonvolatile Memory, 1024-Position, 100k Digital Potentiometer
part A pins: 8 B, 9 W, 10 A
part B pins: 1 O1 (out), 2 CLK (in), 3 SDI (in), 4 SDO (out), 7 T (in), 12 ~{WP} (in), 13 ~{PR} (in), 14 ~{CS} (in), 15 RDY (out), 16 O2 (out)
part C pins: 5 GND (power), 6 VSS (power), 11 VDD (power)
part A text: RDAC; 100k

## AD5252BRUZ50
designator IC?
Dual 256-Position I2C Nonvolatile Memory 50k Digital Potentiometers
part A pins: 4 W1, 5 B1, 6 A1
part B pins: 12 A3, 13 B3, 14 W3
part C pins: 2 AD0 (in), 3 ~{WP} (in), 7 SDA (io), 9 SCL (in), 11 AD1 (in)
part D pins: 1 VDD (power), 8 VSS (power), 10 DGND (power)
part A text: RDAC1; 10k
part B text: RDAC3; 10k

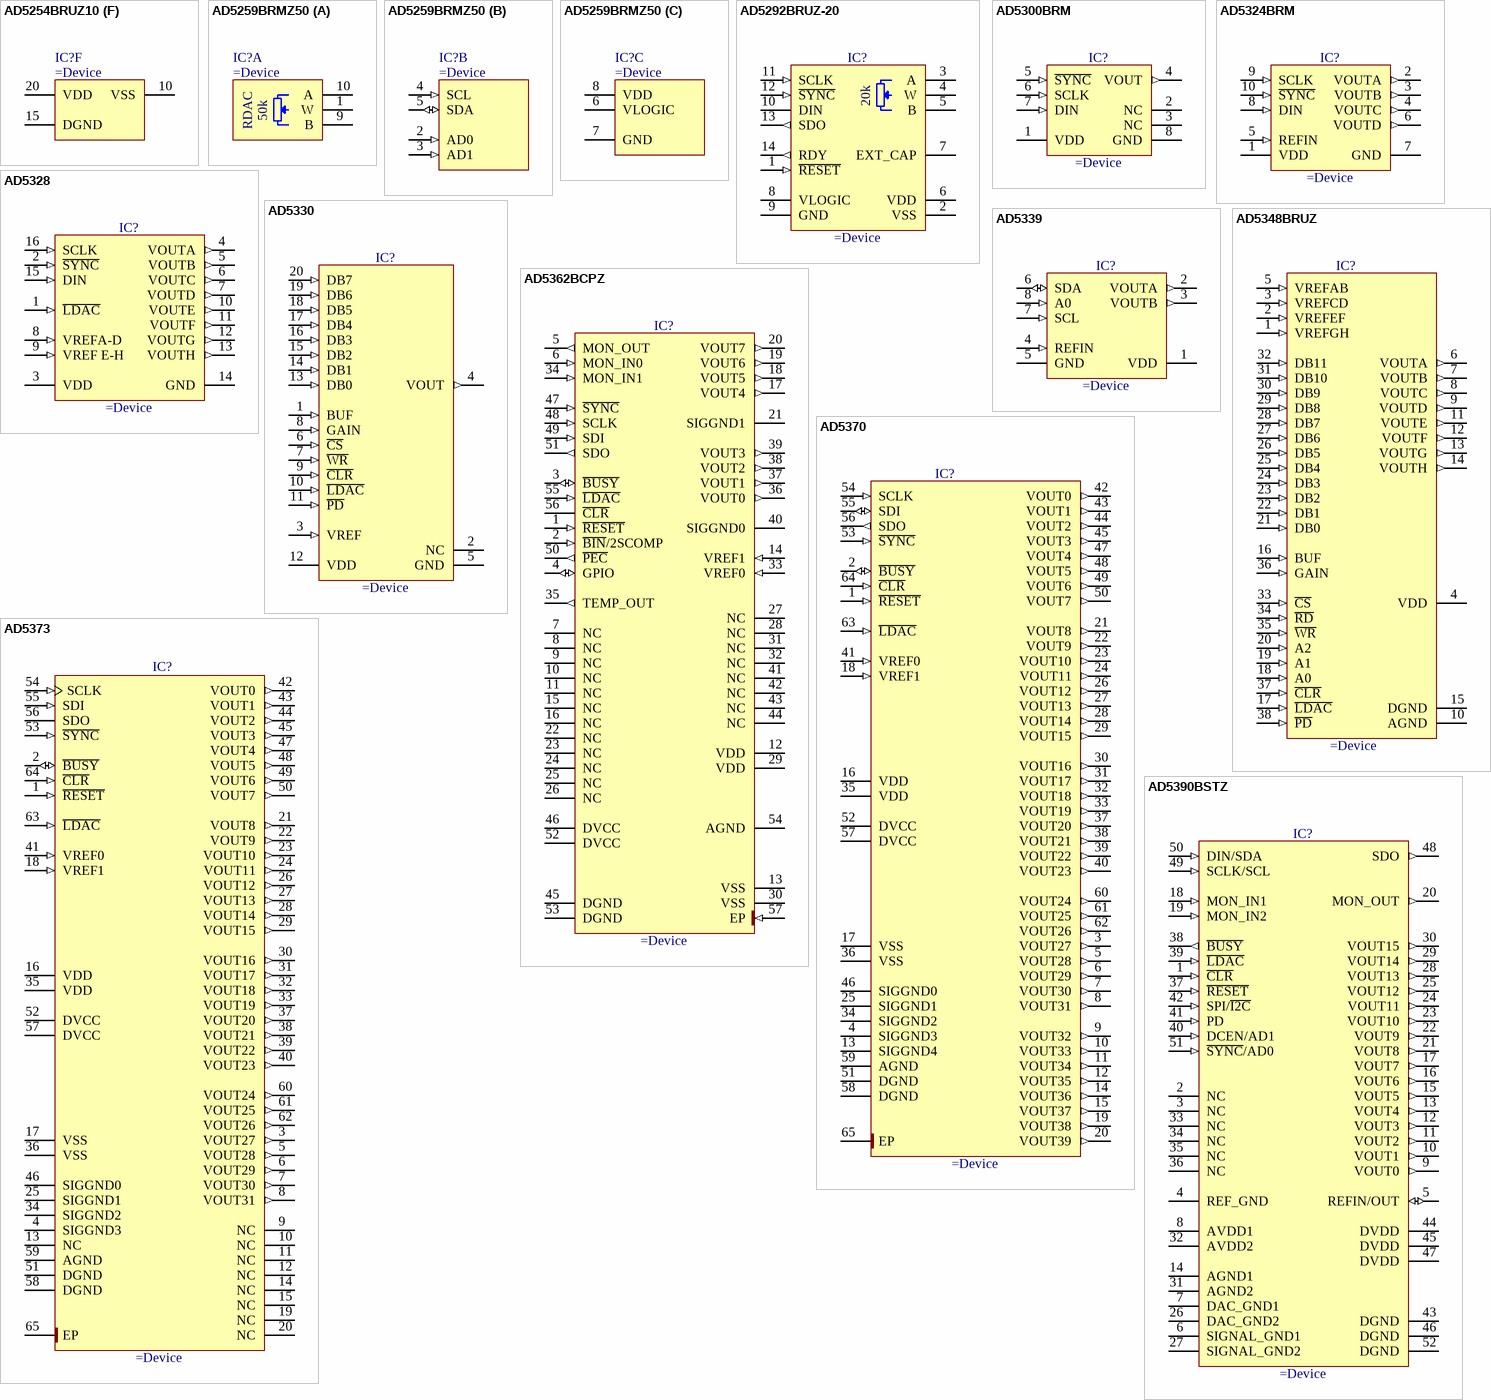
[diagram p3: symbols AD5254BRUZ10 to AD5390BSTZ]

## AD5254BRUZ10
designator IC?
Quad 256-Position I2C Nonvolatile Memory, 10k Digital Potentiometer
part A pins: 1 W0, 2 B0, 3 A0
part B pins: 6 W1, 7 B1, 8 A1
part C pins: 11 A2, 12 B2, 13 W2
part D pins: 17 A3, 18 B3, 19 W3
part E pins: 4 AD0 (in), 5 ~{WP} (in), 9 SDA (io), 14 SCL (in), 16 AD1 (in)
part F pins: 10 VSS (power), 15 DGND (power), 20 VDD (power)
part A text: RDAC0; 10k
part B text: RDAC1; 10k
part C text: RDAC2; 10k
part D text: RDAC3; 10k

## AD5259BRMZ50
designator IC?
Nonvolatile, I2C-Compatible 256-Position, 50k Digital Potentiometer
part A pins: 1 W, 9 B, 10 A
part B pins: 2 AD0 (in), 3 AD1 (in), 4 SCL (in), 5 SDA (io)
part C pins: 6 VLOGIC (power), 7 GND (power), 8 VDD (power)
part A text: RDAC; 50k

## AD5292BRUZ-20
designator IC?
1024-Position, Digital Potentiometers with Maximum ±1% R-Tolerance Error and 20 Time Programmable Memory
pins: 1 ~{RESET} (in), 2 VSS (power), 3 A, 4 W, 5 B, 6 VDD (power), 7 EXT_CAP, 8 VLOGIC (power), 9 GND (power), 10 DIN (power), 11 SCLK (in), 12 ~{SYNC} (in), 13 SDO (out), 14 RDY (out)
text: 20k

## AD5300BRM
designator IC?
2.7 V to 5.5 V, 140 uA, Rail-to-Rail Output 8-Bit DAC
pins: 1 VDD (power), 2 NC, 3 NC, 4 VOUT (out), 5 ~{SYNC} (in), 6 SCLK (in), 7 DIN (in), 8 GND (power)

## AD5324BRM
designator IC?
2.5 V to 5.5 V, 500 µA Quad Voltage Output 12-Bit DAC
pins: 1 VDD (power), 2 VOUTA (out), 3 VOUTB (out), 4 VOUTC (out), 5 REFIN (in), 6 VOUTD (out), 7 GND (power), 8 DIN (in), 9 SCLK (in), 10 ~{SYNC} (in)

## AD5328
designator IC?
2.5 V to 5.5 V Octal Voltage Output 12-Bit DAC
pins: 1 ~{LDAC} (in), 2 ~{SYNC} (in), 3 VDD (power), 4 VOUTA (out), 5 VOUTB (out), 6 VOUTC (out), 7 VOUTD (out), 8 VREFA-D (in), 9 VREF E-H (in), 10 VOUTE (out), 11 VOUTF (out), 12 VOUTG (out), 13 VOUTH (out), 14 GND (power), 15 DIN (in), 16 SCLK (in)

## AD5330
designator IC?
2.5V to 5.5V, 115µA Parallel Interface Single Voltage-Output 8-Bit DAC
pins: 1 BUF (in), 2 NC, 3 VREF (in), 4 VOUT (out), 5 GND (power), 6 ~{CS} (in), 7 ~{WR} (in), 8 GAIN (in), 9 ~{CLR} (in), 10 ~{LDAC} (in), 11 ~{PD} (in), 12 VDD (power), 13 DB0 (in), 14 DB1 (in), 15 DB2 (in), 16 DB3 (in), 17 DB4 (in), 18 DB5 (in), 19 DB6 (in), 20 DB7 (in)

## AD5339
designator IC?
2.5 V to 5.5 V, 250 μA, 2-Wire Interface, Dual Voltage Output, 12-Bit DAC
pins: 1 VDD (power), 2 VOUTA (out), 3 VOUTB (out), 4 REFIN (in), 5 GND (power), 6 SDA (io), 7 SCL (in), 8 A0 (in)

## AD5348BRUZ
designator IC?
2.5 V to 5.5 V, Parallel Interface Octal Voltage Output 12-Bit DAC
pins: 1 VREFGH (in), 2 VREFEF (in), 3 VREFCD (in), 4 VDD (power), 5 VREFAB (in), 6 VOUTA (out), 7 VOUTB (out), 8 VOUTC (out), 9 VOUTD (out), 10 AGND (power), 11 VOUTE (out), 12 VOUTF (out), 13 VOUTG (out), 14 VOUTH (out), 15 DGND (power), 16 BUF (in), 17 ~{LDAC} (in), 18 A0 (in), 19 A1 (in), 20 A2 (in), 21 DB0 (in), 22 DB1 (in), 23 DB2 (in), 24 DB3 (in), 25 DB4 (in), 26 DB5 (in), 27 DB6 (in), 28 DB7 (in), 29 DB8 (in), 30 DB9 (in), 31 DB10 (in), 32 DB11 (in), 33 ~{CS} (in), 34 ~{RD} (in), 35 ~{WR} (in), 36 GAIN (in), 37 ~{CLR} (in), 38 ~{PD} (in)

## AD5362BCPZ
designator IC?
8-Channel, 16-Bit, Serial Input, Voltage Output DAC
pins: 1 ~{RESET} (in), 2 ~{BIN}/2SCOMP (in), 3 ~{BUSY} (io), 4 GPIO (io), 5 MON_OUT (out), 6 MON_IN0 (in), 7 NC, 8 NC, 9 NC, 10 NC, 11 NC, 12 VDD (power), 13 VSS (power), 14 VREF1 (in), 15 NC, 16 NC, 17 VOUT4 (out), 18 VOUT5 (out), 19 VOUT6 (out), 20 VOUT7 (out), 21 SIGGND1 (power), 22 NC, 23 NC, 24 NC, 25 NC, 26 NC, 27 NC, 28 NC, 29 VDD (power), 30 VSS (power), 31 NC, 32 NC, 33 VREF0 (in), 34 MON_IN1 (in), 35 TEMP_OUT (out), 36 VOUT0 (out), 37 VOUT1 (out), 38 VOUT2 (out), 39 VOUT3 (out), 40 SIGGND0 (power), 41 NC, 42 NC, 43 NC, 44 NC, 45 DGND (power), 46 DVCC (power), 47 ~{SYNC} (in), 48 SCLK (in), 49 SDI (in), 50 ~{PEC} (out), 51 SDO (out), 52 DVCC (power), 53 DGND (power), 54 AGND (power), 55 ~{LDAC} (in), 56 ~{CLR} (power), 57 EP (in)

## AD5370
designator IC?
40-Channel, 16-Bit, Serial Input, Voltage Output DAC
pins: 1 ~{RESET} (in) "Digital Reset Input.", 2 ~{BUSY} (io) "B\U\S\Y\ Input/Output (Active Low). B\U\S\Y\ is open-drain when an output. See the B\U\S\Y\ and  L\D\A\C\ Functions section for more information.", 3 VOUT27 (out) "DAC Output. Buffered analog outputs for each of the 40 DAC channels. Each analog  output is capable of driving an output load of 10 kohm to ground. Typical output impedance  of these amplifiers is 0.5 ohm.", 4 SIGGND3 (power) "Reference Ground for DAC 24 and DAC 31. VOUT24 to VOUT31 are referenced to this voltage.", 5 VOUT28 (out) "DAC Output. Buffered analog outputs for each of the 40 DAC channels. Each analog  output is capable of driving an output load of 10 kohm to ground. Typical output impedance  of these amplifiers is 0.5 ohm.", 6 VOUT29 (out) "DAC Output. Buffered analog outputs for each of the 40 DAC channels. Each analog  output is capable of driving an output load of 10 kohm to ground. Typical output impedance  of these amplifiers is 0.5 ohm.", 7 VOUT30 (out) "DAC Output. Buffered analog outputs for each of the 40 DAC channels. Each analog  output is capable of driving an output load of 10 kohm to ground. Typical output impedance  of these amplifiers is 0.5 ohm.", 8 VOUT31 (out) "DAC Output. Buffered analog outputs for each of the 40 DAC channels. Each analog  output is capable of driving an output load of 10 kohm to ground. Typical output impedance  of these amplifiers is 0.5 ohm.", 9 VOUT32 (out) "DAC Output. Buffered analog outputs for each of the 40 DAC channels. Each analog  output is capable of driving an output load of 10 kohm to ground. Typical output impedance  of these amplifiers is 0.5 ohm.", 10 VOUT33 (out) "DAC Output. Buffered analog outputs for each of the 40 DAC channels. Each analog  output is capable of driving an output load of 10 kohm to ground. Typical output impedance  of these amplifiers is 0.5 ohm.", 11 VOUT34 (out) "DAC Output. Buffered analog outputs for each of the 40 DAC channels. Each analog  output is capable of driving an output load of 10 kohm to ground. Typical output impedance  of these amplifiers is 0.5 ohm.", 12 VOUT35 (out) "DAC Output. Buffered analog outputs for each of the 40 DAC channels. Each analog  output is capable of driving an output load of 10 kohm to ground. Typical output impedance  of these amplifiers is 0.5 ohm.", 13 SIGGND4 (power) "Reference Ground for DAC 32 to DAC 39. VOUT32 to VOUT39 are referenced to this voltage.", 14 VOUT36 (out) "DAC Output. Buffered analog outputs for each of the 40 DAC channels. Each analog  output is capable of driving an output load of 10 kohm to ground. Typical output impedance  of these amplifiers is 0.5 ohm.", 15 VOUT37 (out) "DAC Output. Buffered analog outputs for each of the 40 DAC channels. Each analog  output is capable of driving an output load of 10 kohm to ground. Typical output impedance  of these amplifiers is 0.5 ohm.", 16 VDD (power) "Positive Analog Power Supply; +9 V to +16.5 V for specified performance. These pins should be decoupled with 0.1 uF ceramic capacitors and 10 uF capacitors.", 17 VSS (power) "Negative Analog Power Supply; -16.5 V to -8 V for specified performance. These pins should be decoupled with 0.1 uF ceramic capacitors and 10 uF capacitors.", 18 VREF1 (in) "Reference Input for DAC 8 to DAC 39. This reference voltage is referred to AGND.", 19 VOUT38 (out) "DAC Output. Buffered analog outputs for each of the 40 DAC channels. Each analog  output is capable of driving an output load of 10 kohm to ground. Typical output impedance  of these amplifiers is 0.5 ohm.", 20 VOUT39 (out) "DAC Output. Buffered analog outputs for each of the 40 DAC channels. Each analog  output is capable of driving an output load of 10 kohm to ground. Typical output impedance  of these amplifiers is 0.5 ohm.", 21 VOUT8 (out) "DAC Output. Buffered analog outputs for each of the 40 DAC channels. Each analog  output is capable of driving an output load of 10 kohm to ground. Typical output impedance  of these amplifiers is 0.5 ohm.", 22 VOUT9 (out) "DAC Output. Buffered analog outputs for each of the 40 DAC channels. Each analog  output is capable of driving an output load of 10 kohm to ground. Typical output impedance  of these amplifiers is 0.5 ohm.", 23 VOUT10 (out) "DAC Output. Buffered analog outputs for each of the 40 DAC channels. Each analog  output is capable of driving an output load of 10 kohm to ground. Typical output impedance  of these amplifiers is 0.5 ohm.", 24 VOUT11 (out) "DAC Output. Buffered analog outputs for each of the 40 DAC channels. Each analog  output is capable of driving an output load of 10 kohm to ground. Typical output impedance  of these amplifiers is 0.5 ohm.", 25 SIGGND1 (power) "Reference Ground for DAC 8 to DAC 15. VOUT8 to VOUT15 are referenced to this voltage.", 26 VOUT12 (out) "DAC Output. Buffered analog outputs for each of the 40 DAC channels. Each analog  output is capable of driving an output load of 10 kohm to ground. Typical output impedance  of these amplifiers is 0.5 ohm.", 27 VOUT13 (out) "DAC Output. Buffered analog outputs for each of the 40 DAC channels. Each analog  output is capable of driving an output load of 10 kohm to ground. Typical output impedance  of these amplifiers is 0.5 ohm.", 28 VOUT14 (out) "DAC Output. Buffered analog outputs for each of the 40 DAC channels. Each analog  output is capable of driving an output load of 10 kohm to ground. Typical output impedance  of these amplifiers is 0.5 ohm.", 29 VOUT15 (out) "DAC Output. Buffered analog outputs for each of the 40 DAC channels. Each analog  output is capable of driving an output load of 10 kohm to ground. Typical output impedance  of these amplifiers is 0.5 ohm.", 30 VOUT16 (out) "DAC Output. Buffered analog outputs for each of the 40 DAC channels. Each analog  output is capable of driving an output load of 10 kohm to ground. Typical output impedance  of these amplifiers is 0.5 ohm.", 31 VOUT17 (out) "DAC Output. Buffered analog outputs for each of the 40 DAC channels. Each analog  output is capable of driving an output load of 10 kohm to ground. Typical output impedance  of these amplifiers is 0.5 ohm.", 32 VOUT18 (out) "DAC Output. Buffered analog outputs for each of the 40 DAC channels. Each analog  output is capable of driving an output load of 10 kohm to ground. Typical output impedance  of these amplifiers is 0.5 ohm.", 33 VOUT19 (out) "DAC Output. Buffered analog outputs for each of the 40 DAC channels. Each analog  output is capable of driving an output load of 10 kohm to ground. Typical output impedance  of these amplifiers is 0.5 ohm.", 34 SIGGND2 (power) "Reference Ground for DAC 16 to DAC 23. VOUT16 to VOUT23 are referenced to this voltage.", 35 VDD (power) "Positive Analog Power Supply; +9 V to +16.5 V for specified performance. These pins should be decoupled with 0.1 uF ceramic capacitors and 10 uF capacitors.", 36 VSS (power) "Negative Analog Power Supply; -16.5 V to -8 V for specified performance. These pins should be decoupled with 0.1 uF ceramic capacitors and 10 uF capacitors.", 37 VOUT20 (out) "DAC Output. Buffered analog outputs for each of the 40 DAC channels. Each analog  output is capable of driving an output load of 10 kohm to ground. Typical output impedance  of these amplifiers is 0.5 ohm.", 38 VOUT21 (out) "DAC Output. Buffered analog outputs for each of the 40 DAC channels. Each analog  output is capable of driving an output load of 10 kohm to ground. Typical output impedance  of these amplifiers is 0.5 ohm.", 39 VOUT22 (out) "DAC Output. Buffered analog outputs for each of the 40 DAC channels. Each analog  output is capable of driving an output load of 10 kohm to ground. Typical output impedance  of these amplifiers is 0.5 ohm.", 40 VOUT23 (out) "DAC Output. Buffered analog outputs for each of the 40 DAC channels. Each analog  output is capable of driving an output load of 10 kohm to ground. Typical output impedance  of these amplifiers is 0.5 ohm.", 41 VREF0 (in) "Reference Input for DAC 0 to DAC 7. This reference voltage is referred to AGND.", 42 VOUT0 (out) "DAC Output. Buffered analog outputs for each of the 40 DAC channels. Each analog  output is capable of driving an output load of 10 kohm to ground. Typical output impedance  of these amplifiers is 0.5 ohm.", 43 VOUT1 (out) "DAC Output. Buffered analog outputs for each of the 40 DAC channels. Each analog  output is capable of driving an output load of 10 kohm to ground. Typical output impedance  of these amplifiers is 0.5 ohm.", 44 VOUT2 (out) "DAC Output. Buffered analog outputs for each of the 40 DAC channels. Each analog  output is capable of driving an output load of 10 kohm to ground. Typical output impedance  of these amplifiers is 0.5 ohm.", 45 VOUT3 (out) "DAC Output. Buffered analog outputs for each of the 40 DAC channels. Each analog  output is capable of driving an output load of 10 kohm to ground. Typical output impedance  of these amplifiers is 0.5 ohm.", 46 SIGGND0 (power) "Reference Ground for DAC 0 to DAC 7. VOUT0 to VOUT7 are referenced to this voltage.", 47 VOUT4 (out) "DAC Output. Buffered analog outputs for each of the 40 DAC channels. Each analog  output is capable of driving an output load of 10 kohm to ground. Typical output impedance  of these amplifiers is 0.5 ohm.", 48 VOUT5 (out) "DAC Output. Buffered analog outputs for each of the 40 DAC channels. Each analog  output is capable of driving an output load of 10 kohm to ground. Typical output impedance  of these amplifiers is 0.5 ohm.", 49 VOUT6 (out) "DAC Output. Buffered analog outputs for each of the 40 DAC channels. Each analog  output is capable of driving an output load of 10 kohm to ground. Typical output impedance  of these amplifiers is 0.5 ohm.", 50 VOUT7 (out) "DAC Output. Buffered analog outputs for each of the 40 DAC channels. Each analog  output is capable of driving an output load of 10 kohm to ground. Typical output impedance  of these amplifiers is 0.5 ohm.", 51 DGND (power) "Ground for All Digital Circuitry. Both DGND pins should be connected to the DGND plane.", 52 DVCC (power) "Logic Power Supply; 2.5 V to 5.5 V. These pins should be decoupled with 0.1 uF ceramic capacitors and 10 uF capacitors.", 53 ~{SYNC} (in) "Active Low Input. This is the frame synchronization signal for the serial interface. See the Timing Characteristics section for more details.", 54 SCLK (in) "Serial Clock Input. Data is clocked into the shift register on the falling edge of SCLK. This pin operates at clock speeds up to 50 MHz. See the Timing Characteristics section for more details.", 55 SDI (io) "Serial Data Input. Data must be valid on the falling edge of SCLK. See the Timing Characteristics section for more details.", 56 SDO (out) "Serial Data Output for SPI Interface. CMOS output. SDO can be used for readback. Data is clocked out on SDO on the rising edge of SCLK and is valid on the falling edge of SCLK.", 57 DVCC (power) "Logic Power Supply; 2.5 V to 5.5 V. These pins should be decoupled with 0.1 uF ceramic capacitors and 10 uF capacitors.", 58 DGND (power) "Ground for All Digital Circuitry. Both DGND pins should be connected to the DGND plane.", 59 AGND (power) "Ground for All Analog Circuitry. The AGND pin should be connected to the AGND plane.", 60 VOUT24 (out) "DAC Output. Buffered analog outputs for each of the 40 DAC channels. Each analog  output is capable of driving an output load of 10 kohm to ground. Typical output impedance  of these amplifiers is 0.5 ohm.", 61 VOUT25 (out) "DAC Output. Buffered analog outputs for each of the 40 DAC channels. Each analog  output is capable of driving an output load of 10 kohm to ground. Typical output impedance  of these amplifiers is 0.5 ohm.", 62 VOUT26 (out) "DAC Output. Buffered analog outputs for each of the 40 DAC channels. Each analog  output is capable of driving an output load of 10 kohm to ground. Typical output impedance  of these amplifiers is 0.5 ohm.", 63 ~{LDAC} (in) "Load DAC Logic Input (Active Low).", 64 ~{CLR} (in) "Asynchronous Clear Input (Level Sensitive, Active Low). See the Clear Function section for more information.", 65 EP (power) "The lead-free chip scale package (LFCSP) has an exposed paddle on the underside. The paddle should be connected to VSS."

## AD5373
designator IC?
32-Channel, 14-Bit, Serial Input, Voltage Output Digital-to-Analog Converter
pins: 1 ~{RESET} (in) "Digital Reset Input.", 2 ~{BUSY} (io) "Digital Input/Open-Drain Output. B\U\S\Y\ is open drain when an output. See the B\U\S\Y\ and L\D\A\C\ Functions section for more information.", 3 VOUT27 (out) "DAC Output. Buffered analog outputs for each of the 32 DAC channels. Each analog output is capable of driving an output load of 10 kohm to ground. Typical output impedance of these amplifiers is 0.5 ohm.", 4 SIGGND3 (power) "Reference Ground for DAC 24 to DAC 31. VOUT24 to VOUT31 are referenced to this voltage.", 5 VOUT28 (out) "DAC Output. Buffered analog outputs for each of the 32 DAC channels. Each analog output is capable of driving an output load of 10 kohm to ground. Typical output impedance of these amplifiers is 0.5 ohm.", 6 VOUT29 (out) "DAC Output. Buffered analog outputs for each of the 32 DAC channels. Each analog output is capable of driving an output load of 10 kohm to ground. Typical output impedance of these amplifiers is 0.5 ohm.", 7 VOUT30 (out) "DAC Output. Buffered analog outputs for each of the 32 DAC channels. Each analog output is capable of driving an output load of 10 kohm to ground. Typical output impedance of these amplifiers is 0.5 ohm.", 8 VOUT31 (out) "DAC Output. Buffered analog outputs for each of the 32 DAC channels. Each analog output is capable of driving an output load of 10 kohm to ground. Typical output impedance of these amplifiers is 0.5 ohm.", 9 NC "No Connect.", 10 NC "No Connect.", 11 NC "No Connect.", 12 NC "No Connect.", 13 NC "No Connect.", 14 NC "No Connect.", 15 NC "No Connect.", 16 VDD (power) "Positive Analog Power Supply; 9 V to 16.5 V for specified performance. These pins should be decoupled with 0.1 uF ceramic capacitors and 10 uF capacitors.", 17 VSS (power) "Negative Analog Power Supply; ?16.5 V to ?8 V for specified performance. These pins should be decoupled with 0.1 uF ceramic capacitors and 10 uF capacitors.", 18 VREF1 (in) "Reference Input for DAC 8 to DAC 31. This reference voltage is referred to AGND.", 19 NC "No Connect.", 20 NC "No Connect.", 21 VOUT8 (out) "DAC Output. Buffered analog outputs for each of the 32 DAC channels. Each analog output is capable of driving an output load of 10 kohm to ground. Typical output impedance of these amplifiers is 0.5 ohm.", 22 VOUT9 (out) "DAC Output. Buffered analog outputs for each of the 32 DAC channels. Each analog output is capable of driving an output load of 10 kohm to ground. Typical output impedance of these amplifiers is 0.5 ohm.", 23 VOUT10 (out) "DAC Output. Buffered analog outputs for each of the 32 DAC channels. Each analog output is capable of driving an output load of 10 kohm to ground. Typical output impedance of these amplifiers is 0.5 ohm.", 24 VOUT11 (out) "DAC Output. Buffered analog outputs for each of the 32 DAC channels. Each analog output is capable of driving an output load of 10 kohm to ground. Typical output impedance of these amplifiers is 0.5 ohm.", 25 SIGGND1 (power) "Reference Ground for DAC 8 to DAC 15. VOUT8 to VOUT15 are referenced to this voltage.", 26 VOUT12 (out) "DAC Output. Buffered analog outputs for each of the 32 DAC channels. Each analog output is capable of driving an output load of 10 kohm to ground. Typical output impedance of these amplifiers is 0.5 ohm.", 27 VOUT13 (out) "DAC Output. Buffered analog outputs for each of the 32 DAC channels. Each analog output is capable of driving an output load of 10 kohm to ground. Typical output impedance of these amplifiers is 0.5 ohm.", 28 VOUT14 (out) "DAC Output. Buffered analog outputs for each of the 32 DAC channels. Each analog output is capable of driving an output load of 10 kohm to ground. Typical output impedance of these amplifiers is 0.5 ohm.", 29 VOUT15 (out) "DAC Output. Buffered analog outputs for each of the 32 DAC channels. Each analog output is capable of driving an output load of 10 kohm to ground. Typical output impedance of these amplifiers is 0.5 ohm.", 30 VOUT16 (out) "DAC Output. Buffered analog outputs for each of the 32 DAC channels. Each analog output is capable of driving an output load of 10 kohm to ground. Typical output impedance of these amplifiers is 0.5 ohm.", 31 VOUT17 (out) "DAC Output. Buffered analog outputs for each of the 32 DAC channels. Each analog output is capable of driving an output load of 10 kohm to ground. Typical output impedance of these amplifiers is 0.5 ohm.", 32 VOUT18 (out) "DAC Output. Buffered analog outputs for each of the 32 DAC channels. Each analog output is capable of driving an output load of 10 kohm to ground. Typical output impedance of these amplifiers is 0.5 ohm.", 33 VOUT19 (out) "DAC Output. Buffered analog outputs for each of the 32 DAC channels. Each analog output is capable of driving an output load of 10 kohm to ground. Typical output impedance of these amplifiers is 0.5 ohm.", 34 SIGGND2 (power) "Reference Ground for DAC 16 to DAC 23. VOUT16 to VOUT23 are referenced to this voltage.", 35 VDD (power) "Positive Analog Power Supply; 9 V to 16.5 V for specified performance. These pins should be decoupled with 0.1 uF ceramic capacitors and 10 uF capacitors.", 36 VSS (power) "Negative Analog Power Supply; ?16.5 V to ?8 V for specified performance. These pins should be decoupled with 0.1 uF ceramic capacitors and 10 uF capacitors.", 37 VOUT20 (out) "DAC Output. Buffered analog outputs for each of the 32 DAC channels. Each analog output is capable of driving an output load of 10 kohm to ground. Typical output impedance of these amplifiers is 0.5 ohm.", 38 VOUT21 (out) "DAC Output. Buffered analog outputs for each of the 32 DAC channels. Each analog output is capable of driving an output load of 10 kohm to ground. Typical output impedance of these amplifiers is 0.5 ohm.", 39 VOUT22 (out) "DAC Output. Buffered analog outputs for each of the 32 DAC channels. Each analog output is capable of driving an output load of 10 kohm to ground. Typical output impedance of these amplifiers is 0.5 ohm.", 40 VOUT23 (out) "DAC Output. Buffered analog outputs for each of the 32 DAC channels. Each analog output is capable of driving an output load of 10 kohm to ground. Typical output impedance of these amplifiers is 0.5 ohm.", 41 VREF0 (in) "Reference Input for DAC 0 to DAC 7. This reference voltage is referred to AGND.", 42 VOUT0 (out) "DAC Output. Buffered analog outputs for each of the 32 DAC channels. Each analog output is capable of driving an output load of 10 kohm to ground. Typical output impedance of these amplifiers is 0.5 ohm.", 43 VOUT1 (out) "DAC Output. Buffered analog outputs for each of the 32 DAC channels. Each analog output is capable of driving an output load of 10 kohm to ground. Typical output impedance of these amplifiers is 0.5 ohm.", 44 VOUT2 (out) "DAC Output. Buffered analog outputs for each of the 32 DAC channels. Each analog output is capable of driving an output load of 10 kohm to ground. Typical output impedance of these amplifiers is 0.5 ohm.", 45 VOUT3 (out) "DAC Output. Buffered analog outputs for each of the 32 DAC channels. Each analog output is capable of driving an output load of 10 kohm to ground. Typical output impedance of these amplifiers is 0.5 ohm.", 46 SIGGND0 (power) "Reference Ground for DAC 0 to DAC 7. VOUT0 to VOUT7 are referenced to this voltage.", 47 VOUT4 (out) "DAC Output. Buffered analog outputs for each of the 32 DAC channels. Each analog output is capable of driving an output load of 10 kohm to ground. Typical output impedance of these amplifiers is 0.5 ohm.", 48 VOUT5 (out) "DAC Output. Buffered analog outputs for each of the 32 DAC channels. Each analog output is capable of driving an output load of 10 kohm to ground. Typical output impedance of these amplifiers is 0.5 ohm.", 49 VOUT6 (out) "DAC Output. Buffered analog outputs for each of the 32 DAC channels. Each analog output is capable of driving an output load of 10 kohm to ground. Typical output impedance of these amplifiers is 0.5 ohm.", 50 VOUT7 (out) "DAC Output. Buffered analog outputs for each of the 32 DAC channels. Each analog output is capable of driving an output load of 10 kohm to ground. Typical output impedance of these amplifiers is 0.5 ohm.", 51 DGND (power) "Ground for All Digital Circuitry. The DGND pins should be connected to the DGND plane.", 52 DVCC (power) "Logic Power Supply; 2.5 V to 5.5 V. These pins should be decoupled with 0.1 uF ceramic capacitors and 10 uF capacitors.", 53 ~{SYNC} (in) "Active Low Input. This is the frame synchronization signal for the serial interface.", 54 SCLK (in) "Serial Clock Input. Data is clocked into the shift register on the falling edge of SCLK. This pin operates at clock speeds up to 50 MHz.", 55 SDI (in) "Serial Data Input. Data must be valid on the falling edge of SCLK.", 56 SDO (hiz) "Serial Data Output. CMOS output. SDO can be used for readback. Data is clocked out on SDO on the rising edge of SCLK and is valid on the falling edge of SCLK.", 57 DVCC (power) "Logic Power Supply; 2.5 V to 5.5 V. These pins should be decoupled with 0.1 uF ceramic capacitors and 10 uF capacitors.", 58 DGND (power) "Ground for All Digital Circuitry. The DGND pins should be connected to the DGND plane.", 59 AGND (power) "Ground for All Analog Circuitry. The AGND pin should be connected to the AGND plane.", 60 VOUT24 (out) "DAC Output. Buffered analog outputs for each of the 32 DAC channels. Each analog output is capable of driving an output load of 10 kohm to ground. Typical output impedance of these amplifiers is 0.5 ohm.", 61 VOUT25 (out) "DAC Output. Buffered analog outputs for each of the 32 DAC channels. Each analog output is capable of driving an output load of 10 kohm to ground. Typical output impedance of these amplifiers is 0.5 ohm.", 62 VOUT26 (out) "DAC Output. Buffered analog outputs for each of the 32 DAC channels. Each analog output is capable of driving an output load of 10 kohm to ground. Typical output impedance of these amplifiers is 0.5 ohm.", 63 ~{LDAC} (in) "Load DAC Logic Input (Active Low). See the B\U\S\Y\ and L\D\A\C\ Functions section for more information.", 64 ~{CLR} (in) "Asynchronous Clear Input (Level Sensitive, Active Low). See the Clear Function section for more information.", 65 EP (power) "The lead-free chip scale package (LFCSP) has an exposed paddle on the underside. The paddle should be connected to VSS."

## AD5390BSTZ
designator IC?
16-Channel, 3V/5V, Serial Input, Single Supply, 14-Bit Voltage Output
pins: 1 ~{CLR} (in), 2 NC, 3 NC, 4 REF_GND (power), 5 REFIN/OUT (io), 6 SIGNAL_GND1 (power), 7 DAC_GND1 (power), 8 AVDD1 (power), 9 VOUT0 (out), 10 VOUT1 (out), 11 VOUT2 (out), 12 VOUT3 (out), 13 VOUT4 (out), 14 AGND1 (power), 15 VOUT5 (out), 16 VOUT6 (out), 17 VOUT7 (out), 18 MON_IN1 (in), 19 MON_IN2 (in), 20 MON_OUT (out), 21 VOUT8 (out), 22 VOUT9 (out), 23 VOUT10 (out), 24 VOUT11 (out), 25 VOUT12 (out), 26 DAC_GND2 (power), 27 SIGNAL_GND2 (power), 28 VOUT13 (out), 29 VOUT14 (out), 30 VOUT15 (out), 31 AGND2 (power), 32 AVDD2 (power), 33 NC, 34 NC, 35 NC, 36 NC, 37 ~{RESET} (in), 38 ~{BUSY} (out), 39 ~{LDAC} (in), 40 DCEN/AD1 (in), 41 PD (in), 42 SPI/~{I2C} (in), 43 DGND (power), 44 DVDD (power), 45 DVDD (power), 46 DGND (power), 47 DVDD (power), 48 SDO (out), 49 SCLK/SCL (in), 50 DIN/SDA (in), 51 ~{SYNC}/AD0 (in), 52 DGND (power)

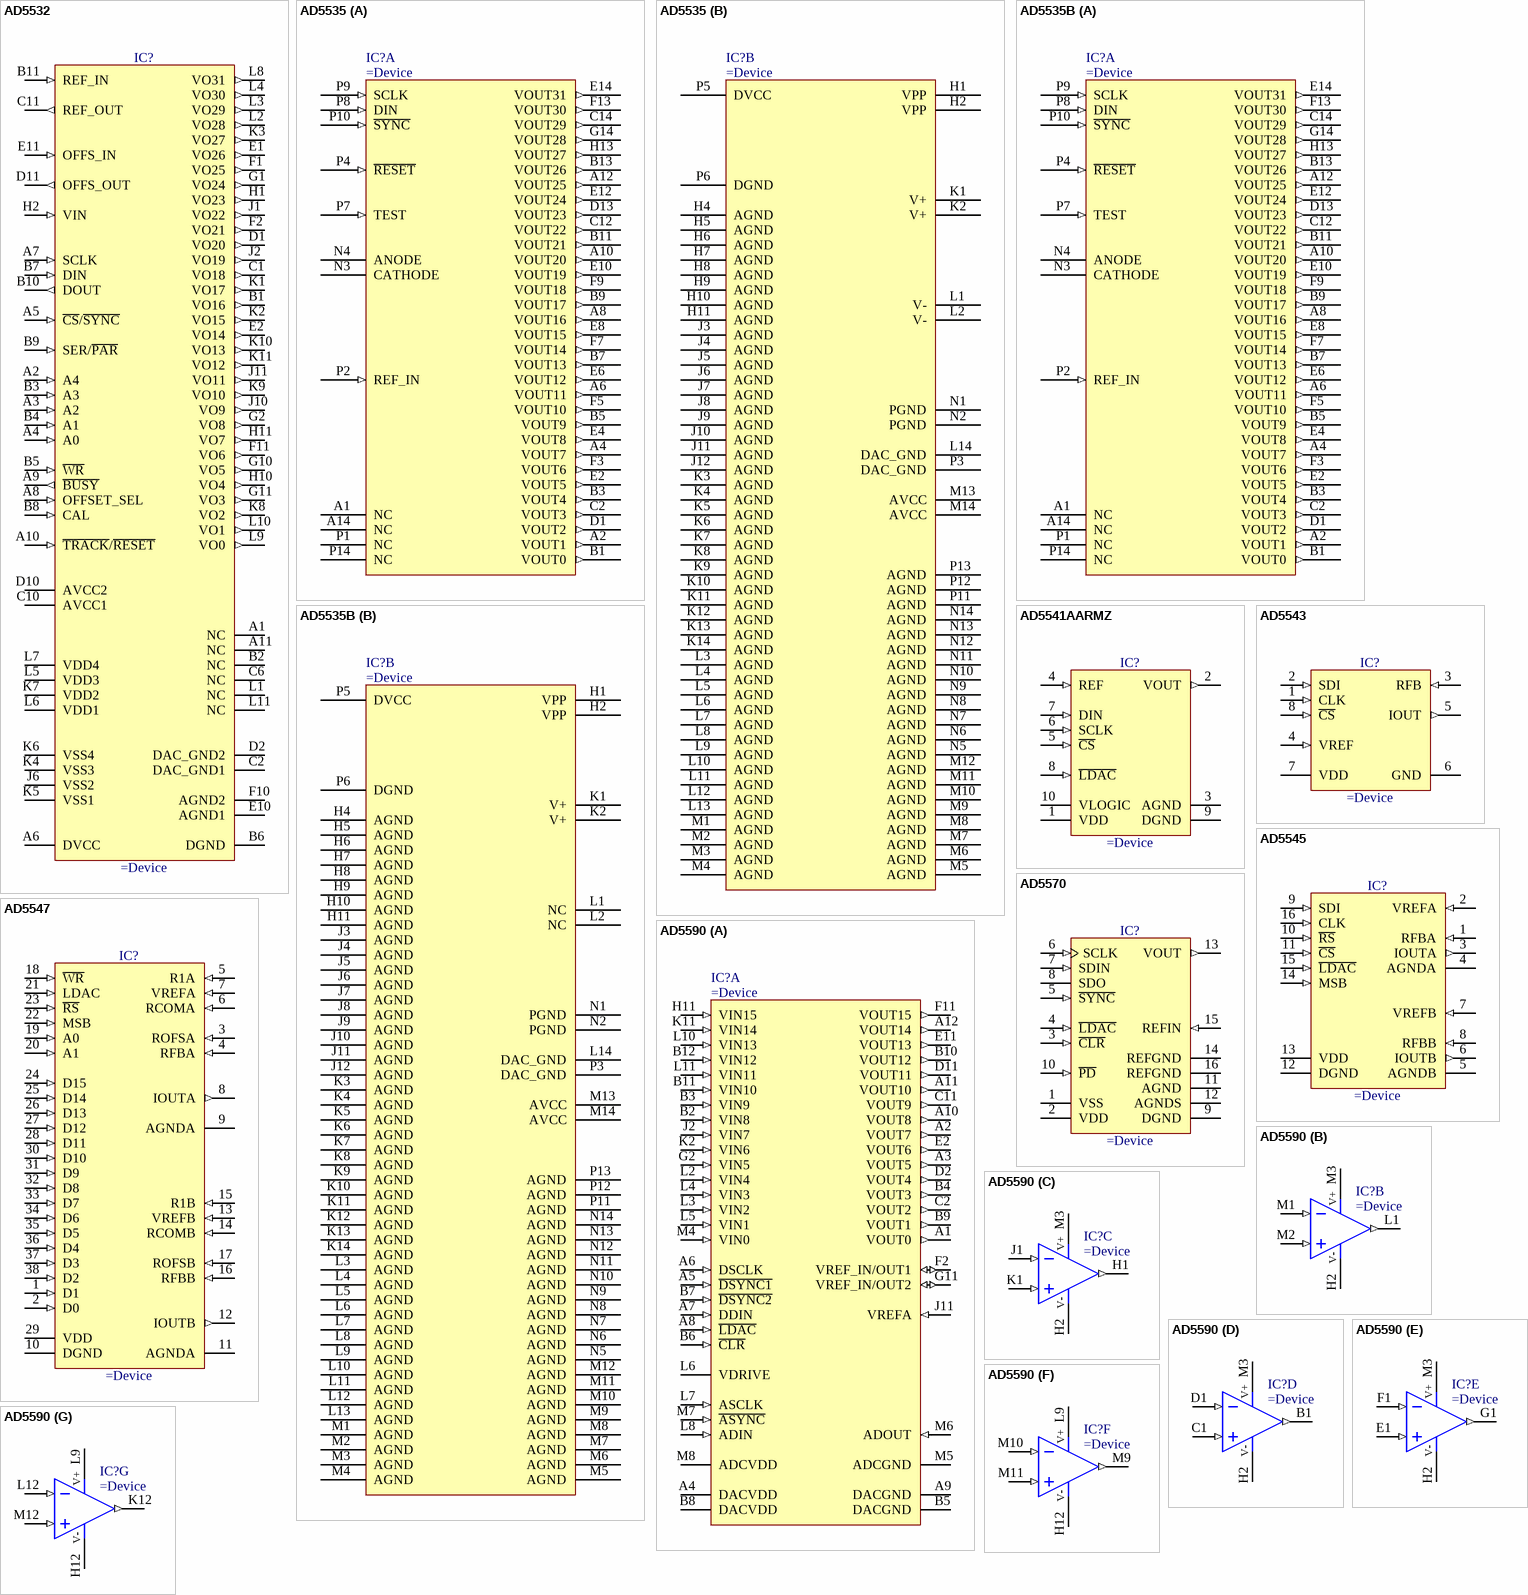
[diagram p4: symbols AD5532 to AD5590]